# Altium integrated library Texas Instruments Power Management PWM Controller.IntLib: 1227 symbols (part 48 of 49)
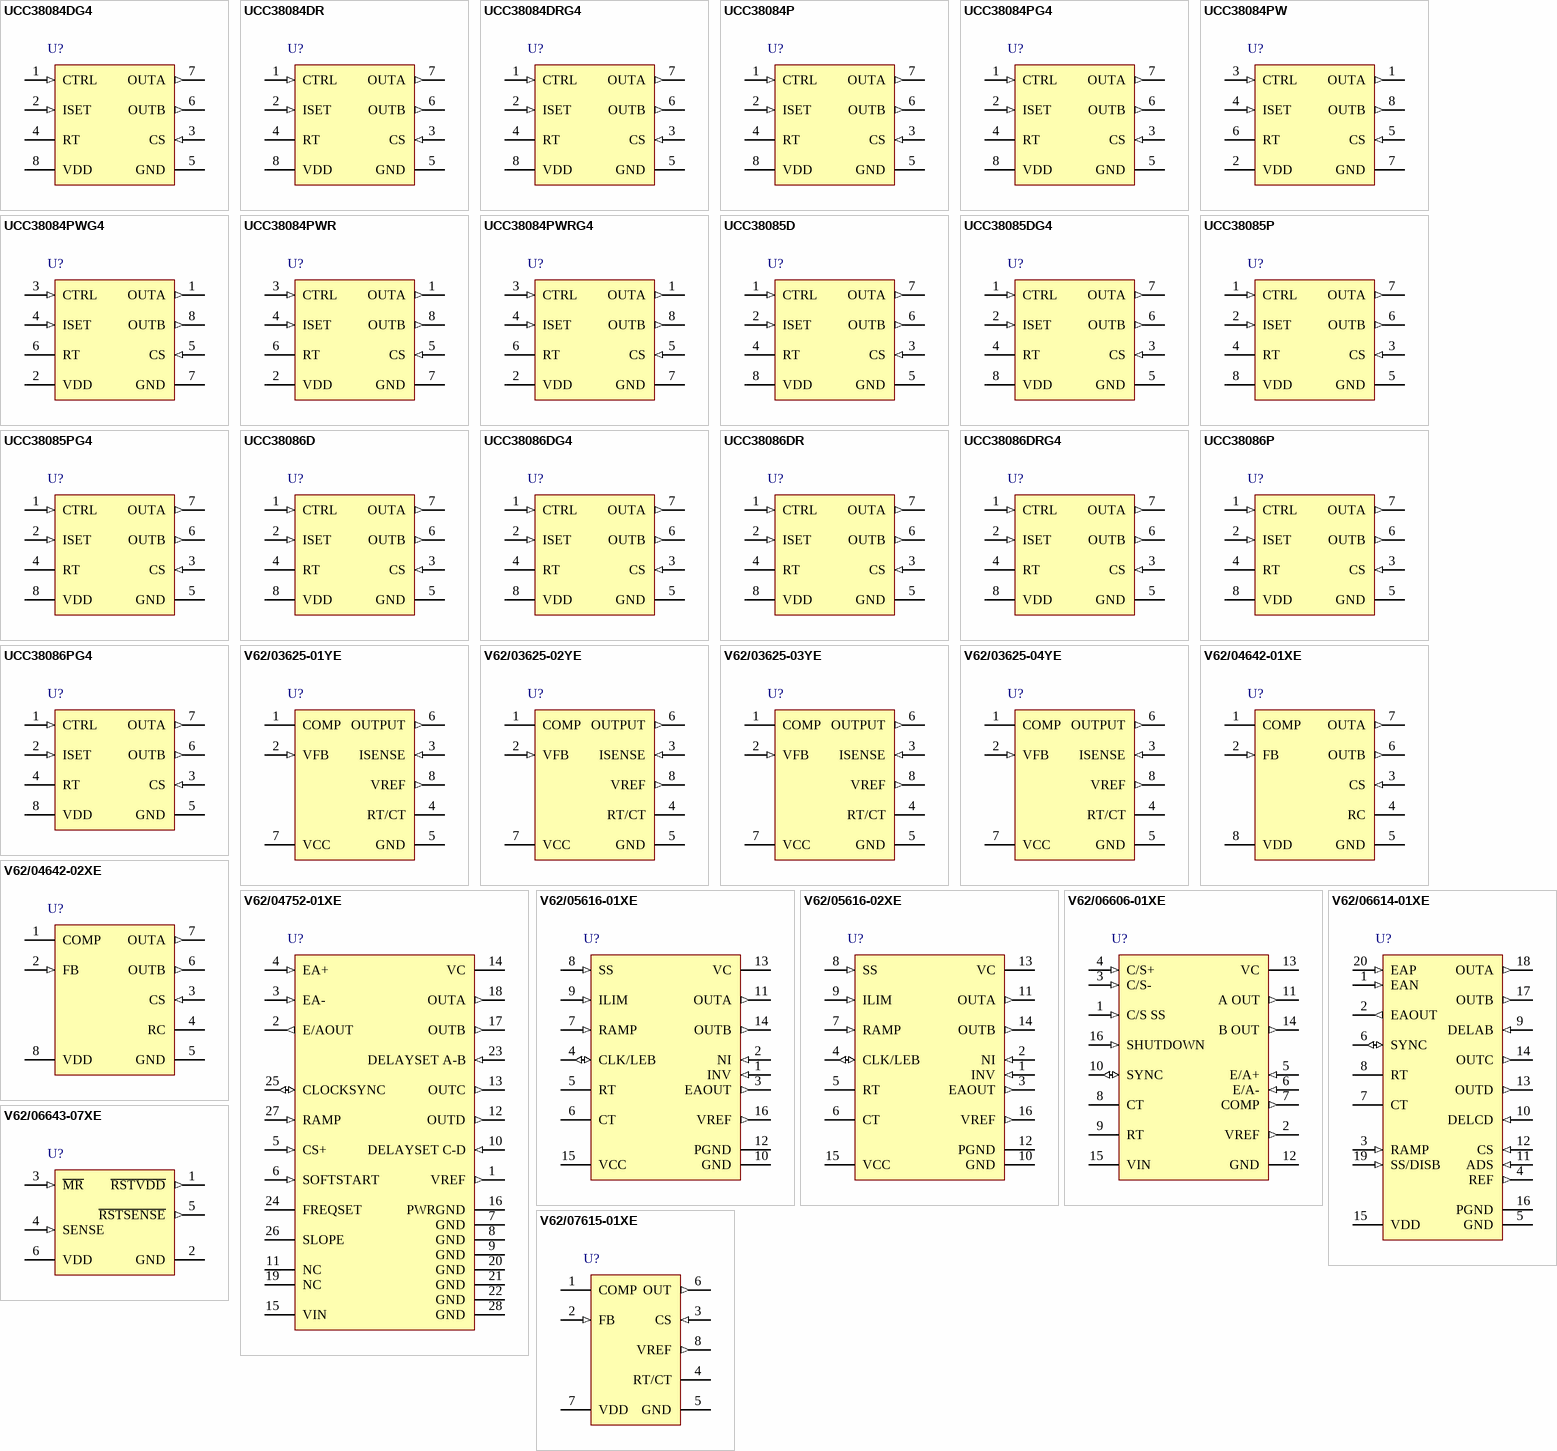
[diagram p90: symbols UCC38084DG4 to V62/07615-01XE]

## UCC38084PWG4
designator U?
8-Pin Current Mode Push-Pull PWM Controllers with Programmable Slope Compensation with Current control, 50% Duty Cycle, 0 to +70 degC, 8-pin TSSOP (PW), Green (RoHS & no Sb/Br); PartNumber: UCC38084PWG4; Manufacturer: Texas Instruments; Duty Cycle(Max)(%): 50; Frequency(Max)(kHz): 1000; Rating: Catalog; Regulated Outputs(#): 2; Topology: Boost, Buck, Half-Bridge, Push-Pull; UVLO Thresholds On/Off(V): 4.3/4.1; DatasheetVersion: SLUS488E; PackageVersion: revG, Feb-2011; PackageReference: PW8; PackageDescription: 8-Pin Plastic Thin Small Outline Package 3 x 4.4 mm Body ,0.65 mm Pitch; Supplier 1: Digi-Key; Supplier Part Number 1: UCC38084PWG4-ND; Supplier 2: Newark; Supplier Part Number 2: 70K5922; Supplier 3: Mouser; Supplier Part Number 3: 595-UCC38084PWG4; Control Method: Current; Eco-Plan: Green (RoHS & no Sb/Br); SubFamily: PWM Controller; Mounting Technology: Surface Mount; Code_JEDEC: MO-153; ComponentLink1Description: Datasheet; ComponentLink1URL: http://www.ti.com/general/docs/lit/getliterature.tsp?genericPartNumber=UCC38084&fileType=pdf
footprint PW8_N (TSOP, 8-Leads, Body 3x4.4mm, Pitch 0.65mm, IPC Medium Density)
footprint PW8_L (TSOP, 8-Leads, Body 3x4.4mm, Pitch 0.65mm, IPC High Density)
footprint PW8_M (TSOP, 8-Leads, Body 3x4.4mm, Pitch 0.65mm, IPC Low Density)
pins: 1 OUTA (out) "Alternating high-current output stages.", 2 VDD (power) "Power input connection.", 3 CTRL (in) "Error voltage input to PWM comparator.", 4 ISET (in) "Current selection for slope compensation.", 5 CS (in) "The current-sense input to the PWM comparator, the cycle-by-cycle peak current comparator, and the overcurrent comparator. The overcurrent comparator is only intended for fault sensing. Exceeding the overcurrent threshold (See Datasheet)", 6 RT "Programs the oscillator.", 7 GND (power) "Reference ground and power ground for all functions. Due to high currents, and high-frequency operation of the IC, a low-impedance circuit board ground plane is highly recommended.", 8 OUTB (out) "Alternating high-current output stages."

## UCC38084PWR
designator U?
8-Pin Current Mode Push-Pull PWM Controllers with Programmable Slope Compensation with Current control, 50% Duty Cycle, 0 to +70 degC, 8-pin TSSOP (PW), Green (RoHS & no Sb/Br); PartNumber: UCC38084PWR; Manufacturer: Texas Instruments; Duty Cycle(Max)(%): 50; Frequency(Max)(kHz): 1000; Rating: Catalog; Regulated Outputs(#): 2; Topology: Boost, Buck, Half-Bridge, Push-Pull; UVLO Thresholds On/Off(V): 4.3/4.1; DatasheetVersion: SLUS488E; PackageVersion: revG, Feb-2011; PackageReference: PW8; PackageDescription: 8-Pin Plastic Thin Small Outline Package 3 x 4.4 mm Body ,0.65 mm Pitch; Supplier 1: Digi-Key; Supplier Part Number 1: UCC38084PWR-ND; Supplier 2: Newark; Supplier Part Number 2: 22H2014; Supplier 3: Mouser; Supplier Part Number 3: 595-UCC38084PWR; Control Method: Current; Eco-Plan: Green (RoHS & no Sb/Br); SubFamily: PWM Controller; Mounting Technology: Surface Mount; Code_JEDEC: MO-153; ComponentLink1Description: Datasheet; ComponentLink1URL: http://www.ti.com/general/docs/lit/getliterature.tsp?genericPartNumber=UCC38084&fileType=pdf
footprint PW8_N (TSOP, 8-Leads, Body 3x4.4mm, Pitch 0.65mm, IPC Medium Density)
footprint PW8_L (TSOP, 8-Leads, Body 3x4.4mm, Pitch 0.65mm, IPC High Density)
footprint PW8_M (TSOP, 8-Leads, Body 3x4.4mm, Pitch 0.65mm, IPC Low Density)
pins: 1 OUTA (out) "Alternating high-current output stages.", 2 VDD (power) "Power input connection.", 3 CTRL (in) "Error voltage input to PWM comparator.", 4 ISET (in) "Current selection for slope compensation.", 5 CS (in) "The current-sense input to the PWM comparator, the cycle-by-cycle peak current comparator, and the overcurrent comparator. The overcurrent comparator is only intended for fault sensing. Exceeding the overcurrent threshold (See Datasheet)", 6 RT "Programs the oscillator.", 7 GND (power) "Reference ground and power ground for all functions. Due to high currents, and high-frequency operation of the IC, a low-impedance circuit board ground plane is highly recommended.", 8 OUTB (out) "Alternating high-current output stages."

## UCC38084PWRG4
designator U?
Push-Pull PWM Controller with Programmable Slope Compensation with Current Control, 50 % Duty Cycle, 0 to +70 degC, 8-pin TSSOP (PW), Green (RoHS & no Sb/Br); PartNumber: UCC38084PWRG4; Manufacturer: Texas Instruments; Duty Cycle(Max)(%): 50; Frequency(Max)(kHz): 1000; Rating: Catalog; Regulated Outputs(#): 2; Topology: Boost, Buck, Half-Bridge, Push-Pull; UVLO Thresholds On/Off(V): 4.3/4.1; DatasheetVersion: SLUS488E; PackageVersion: revG, Feb-2011; PackageReference: PW8; PackageDescription: 8-Pin Plastic Thin Small Outline Package 3 x 4.4 mm Body ,0.65 mm Pitch; Supplier 1: Digi-Key; Supplier Part Number 1: UCC38084PWRG4-ND; Supplier 2: Newark; Supplier Part Number 2: 54K2133; Supplier 3: Mouser; Supplier Part Number 3: 595-UCC38084PWRG4; Control Method: Current; Eco-Plan: Green (RoHS & no Sb/Br); SubFamily: PWM Controller; Mounting Technology: Surface Mount; Code_JEDEC: MO-153; ComponentLink1Description: Datasheet; ComponentLink1URL: http://www.ti.com/general/docs/lit/getliterature.tsp?genericPartNumber=UCC38084&fileType=pdf
footprint PW8_N (TSOP, 8-Leads, Body 3x4.4mm, Pitch 0.65mm, IPC Medium Density)
footprint PW8_L (TSOP, 8-Leads, Body 3x4.4mm, Pitch 0.65mm, IPC High Density)
footprint PW8_M (TSOP, 8-Leads, Body 3x4.4mm, Pitch 0.65mm, IPC Low Density)
pins: 1 OUTA (out) "Alternating high-current output stages.", 2 VDD (power) "Power input connection.", 3 CTRL (in) "Error voltage input to PWM comparator.", 4 ISET (in) "Current selection for slope compensation.", 5 CS (in) "The current-sense input to the PWM comparator, the cycle-by-cycle peak current comparator, and the overcurrent comparator. The overcurrent comparator is only intended for fault sensing. Exceeding the overcurrent threshold (See Datasheet)", 6 RT "Programs the oscillator.", 7 GND (power) "Reference ground and power ground for all functions. Due to high currents, and high-frequency operation of the IC, a low-impedance circuit board ground plane is highly recommended.", 8 OUTB (out) "Alternating high-current output stages."

## UCC38085D
designator U?
Push-Pull PWM Controller with Programmable Slope Compensation with Current Control, 50 % Duty Cycle, 0 to +70 degC, 8-pin SOIC (D), Green (RoHS & no Sb/Br); PartNumber: UCC38085D; Manufacturer: Texas Instruments; Duty Cycle(Max)(%): 50; Frequency(Max)(kHz): 1000; Rating: Catalog; Regulated Outputs(#): 2; Topology: Boost, Buck, Half-Bridge, Push-Pull; UVLO Thresholds On/Off(V): 12.5/8.3; DatasheetVersion: SLUS488E; PackageVersion: revM, Jun-2011; PackageReference: D8; PackageDescription: 8-Pin Plastic Small Outline Integrated Circuit, 4.9 x 3.9 mm, Pitch 1.27 mm Pitch; Supplier 1: Digi-Key; Supplier Part Number 1: 296-13694-5-ND; Supplier 2: Newark; Supplier Part Number 2: 02E7343; Supplier 3: Mouser; Supplier Part Number 3: 595-UCC38085D; Control Method: Current; Eco-Plan: Green (RoHS & no Sb/Br); SubFamily: PWM Controller; Mounting Technology: Surface Mount; Code_JEDEC: MS-012AA; ComponentLink1Description: Datasheet; ComponentLink1URL: http://www.ti.com/general/docs/lit/getliterature.tsp?genericPartNumber=UCC38085&fileType=pdf
footprint D8_N (SOIC, 8-Leads, Body 4.9x3.9mm, Pitch 1.27mm, IPC Medium Density)
footprint D8_L (SOIC, 8-Leads, Body 4.9x3.9mm, Pitch 1.27mm, IPC High Density)
footprint D8_M (SOIC, 8-Leads, Body 4.9x3.9mm, Pitch 1.27mm, IPC Low Density)
pins: 1 CTRL (in) "Error voltage input to PWM comparator.", 2 ISET (in) "Current selection for slope compensation.", 3 CS (in) "The current-sense input to the PWM comparator, the cycle-by-cycle peak current comparator, and the overcurrent comparator. The overcurrent comparator is only intended for fault sensing. Exceeding the overcurrent threshold (See Datasheet)", 4 RT "Programs the oscillator", 5 GND (power) "Reference ground and power ground for all functions. Due to high currents, and high-frequency operation of the IC, a low-impedance circuit board ground plane is highly recommended.", 6 OUTB (out) "Alternating high-current output stages.", 7 OUTA (out) "Alternating high-current output stages.", 8 VDD (power) "Power input connection."

## UCC38085DG4
designator U?
Push-Pull PWM Controller with Programmable Slope Compensation with Current Control, 50 % Duty Cycle, 0 to +70 degC, 8-pin SOIC (D), Green (RoHS & no Sb/Br); PartNumber: UCC38085DG4; Manufacturer: Texas Instruments; Duty Cycle(Max)(%): 50; Frequency(Max)(kHz): 1000; Rating: Catalog; Regulated Outputs(#): 2; Topology: Boost, Buck, Half-Bridge, Push-Pull; UVLO Thresholds On/Off(V): 12.5/8.3; DatasheetVersion: SLUS488E; PackageVersion: revM, Jun-2011; PackageReference: D8; PackageDescription: 8-Pin Plastic Small Outline Integrated Circuit, 4.9 x 3.9 mm, Pitch 1.27 mm Pitch; Supplier 1: Digi-Key; Supplier Part Number 1: UCC38085DG4-ND; Supplier 2: Newark; Supplier Part Number 2: 34M0255; Supplier 3: Mouser; Supplier Part Number 3: 595-UCC38085DG4; Control Method: Current; Eco-Plan: Green (RoHS & no Sb/Br); SubFamily: PWM Controller; Mounting Technology: Surface Mount; Code_JEDEC: MS-012AA; ComponentLink1Description: Datasheet; ComponentLink1URL: http://www.ti.com/general/docs/lit/getliterature.tsp?genericPartNumber=UCC38085&fileType=pdf
footprint D8_N (SOIC, 8-Leads, Body 4.9x3.9mm, Pitch 1.27mm, IPC Medium Density)
footprint D8_L (SOIC, 8-Leads, Body 4.9x3.9mm, Pitch 1.27mm, IPC High Density)
footprint D8_M (SOIC, 8-Leads, Body 4.9x3.9mm, Pitch 1.27mm, IPC Low Density)
pins: 1 CTRL (in) "Error voltage input to PWM comparator.", 2 ISET (in) "Current selection for slope compensation.", 3 CS (in) "The current-sense input to the PWM comparator, the cycle-by-cycle peak current comparator, and the overcurrent comparator. The overcurrent comparator is only intended for fault sensing. Exceeding the overcurrent threshold (See Datasheet)", 4 RT "Programs the oscillator", 5 GND (power) "Reference ground and power ground for all functions. Due to high currents, and high-frequency operation of the IC, a low-impedance circuit board ground plane is highly recommended.", 6 OUTB (out) "Alternating high-current output stages.", 7 OUTA (out) "Alternating high-current output stages.", 8 VDD (power) "Power input connection."

## UCC38085P
designator U?
Push-Pull PWM Controller with Programmable Slope Compensation with Current Control, 50 % Duty Cycle, 0 to +70 degC, 8-pin PDIP (P), Green (RoHS & no Sb/Br); PartNumber: UCC38085P; Manufacturer: Texas Instruments; Duty Cycle(Max)(%): 50; Frequency(Max)(kHz): 1000; Rating: Catalog; Regulated Outputs(#): 2; Topology: Boost, Buck, Half-Bridge, Push-Pull; UVLO Thresholds On/Off(V): 12.5/8.3; DatasheetVersion: SLUS488E; PackageVersion: revE, Apr-2010; PackageReference: P8; PackageDescription: 8-Pin Plastic Dual-In-Line Package, Row Spacing 7.62 mm, Pitch 2.54 mm; Supplier 1: Digi-Key; Supplier Part Number 1: 296-13695-5-ND; Supplier 2: Newark; Supplier Part Number 2: 02E7345; Supplier 3: Mouser; Supplier Part Number 3: 595-UCC38085P; Control Method: Current; Eco-Plan: Green (RoHS & no Sb/Br); SubFamily: PWM Controller; Mounting Technology: Through Hole; Code_JEDEC: MS-001-BA; ComponentLink1Description: Datasheet; ComponentLink1URL: http://www.ti.com/general/docs/lit/getliterature.tsp?genericPartNumber=UCC38085&fileType=pdf
footprint P8 (DIP, 8-Leads, Row Spacing 7.62mm, Pitch 2.54mm, Body 9.6x6.4mm)
pins: 1 CTRL (in) "Error voltage input to PWM comparator.", 2 ISET (in) "Current selection for slope compensation.", 3 CS (in) "The current-sense input to the PWM comparator, the cycle-by-cycle peak current comparator, and the overcurrent comparator. The overcurrent comparator is only intended for fault sensing. Exceeding the overcurrent threshold (See Datasheet)", 4 RT "Programs the oscillator.", 5 GND (power) "Reference ground and power ground for all functions. Due to high currents, and high-frequency operation of the IC, a low-impedance circuit board ground plane is highly recommended.", 6 OUTB (out) "Alternating high-current output stages.", 7 OUTA (out) "Alternating high-current output stages.", 8 VDD (power) "Power input connection."

## UCC38085PG4
designator U?
Push-Pull PWM Controller with Programmable Slope Compensation with Current Control, 50 % Duty Cycle, 0 to +70 degC, 8-pin PDIP (P), Green (RoHS & no Sb/Br); PartNumber: UCC38085PG4; Manufacturer: Texas Instruments; Duty Cycle(Max)(%): 50; Frequency(Max)(kHz): 1000; Rating: Catalog; Regulated Outputs(#): 2; Topology: Boost, Buck, Half-Bridge, Push-Pull; UVLO Thresholds On/Off(V): 12.5/8.3; DatasheetVersion: SLUS488E; PackageVersion: revE, Apr-2010; PackageReference: P8; PackageDescription: 8-Pin Plastic Dual-In-Line Package, Row Spacing 7.62 mm, Pitch 2.54 mm; Supplier 1: Digi-Key; Supplier Part Number 1: UCC38085PG4-ND; Supplier 2: Newark; Supplier Part Number 2: 24K6345; Supplier 3: Mouser; Supplier Part Number 3: 595-UCC38085PG4; Control Method: Current; Eco-Plan: Green (RoHS & no Sb/Br); SubFamily: PWM Controller; Mounting Technology: Through Hole; Code_JEDEC: MS-001-BA; ComponentLink1Description: Datasheet; ComponentLink1URL: http://www.ti.com/general/docs/lit/getliterature.tsp?genericPartNumber=UCC38085&fileType=pdf
footprint P8 (DIP, 8-Leads, Row Spacing 7.62mm, Pitch 2.54mm, Body 9.6x6.4mm)
pins: 1 CTRL (in) "Error voltage input to PWM comparator.", 2 ISET (in) "Current selection for slope compensation.", 3 CS (in) "The current-sense input to the PWM comparator, the cycle-by-cycle peak current comparator, and the overcurrent comparator. The overcurrent comparator is only intended for fault sensing. Exceeding the overcurrent threshold (See Datasheet)", 4 RT "Programs the oscillator.", 5 GND (power) "Reference ground and power ground for all functions. Due to high currents, and high-frequency operation of the IC, a low-impedance circuit board ground plane is highly recommended.", 6 OUTB (out) "Alternating high-current output stages.", 7 OUTA (out) "Alternating high-current output stages.", 8 VDD (power) "Power input connection."

## UCC38086D
designator U?
Push-Pull PWM Controller with Programmable Slope Compensation with Current Control, 50 % Duty Cycle, 0 to +70 degC, 8-pin SOIC (D), Green (RoHS & no Sb/Br); PartNumber: UCC38086D; Manufacturer: Texas Instruments; Duty Cycle(Max)(%): 50; Frequency(Max)(kHz): 1000; Rating: Catalog; Regulated Outputs(#): 2; Topology: Boost, Buck, Half-Bridge, Push-Pull; UVLO Thresholds On/Off(V): 4.3/4.1; DatasheetVersion: SLUS488E; PackageVersion: revM, Jun-2011; PackageReference: D8; PackageDescription: 8-Pin Plastic Small Outline Integrated Circuit, 4.9 x 3.9 mm, Pitch 1.27 mm Pitch; Supplier 1: Digi-Key; Supplier Part Number 1: 296-13696-5-ND; Supplier 2: Newark; Supplier Part Number 2: 02E7346; Supplier 3: Mouser; Supplier Part Number 3: 595-UCC38086D; Control Method: Current; Eco-Plan: Green (RoHS & no Sb/Br); SubFamily: PWM Controller; Mounting Technology: Surface Mount; Code_JEDEC: MS-012AA; ComponentLink1Description: Datasheet; ComponentLink1URL: http://www.ti.com/general/docs/lit/getliterature.tsp?genericPartNumber=UCC38086&fileType=pdf
footprint D8_N (SOIC, 8-Leads, Body 4.9x3.9mm, Pitch 1.27mm, IPC Medium Density)
footprint D8_L (SOIC, 8-Leads, Body 4.9x3.9mm, Pitch 1.27mm, IPC High Density)
footprint D8_M (SOIC, 8-Leads, Body 4.9x3.9mm, Pitch 1.27mm, IPC Low Density)
pins: 1 CTRL (in) "Error voltage input to PWM comparator.", 2 ISET (in) "Current selection for slope compensation.", 3 CS (in) "The current-sense input to the PWM comparator, the cycle-by-cycle peak current comparator, and the overcurrent comparator. The overcurrent comparator is only intended for fault sensing. Exceeding the overcurrent threshold (See Datasheet)", 4 RT "Programs the oscillator.", 5 GND (power) "Reference ground and power ground for all functions. Due to high currents, and high-frequency operation of the IC, a low-impedance circuit board ground plane is highly recommended.", 6 OUTB (out) "Alternating high-current output stages.", 7 OUTA (out) "Alternating high-current output stages.", 8 VDD (power) "Power input connection."

## UCC38086DG4
designator U?
Push-Pull PWM Controller with Programmable Slope Compensation with Current Control, 50 % Duty Cycle, 0 to +70 degC, 8-pin SOIC (D), Green (RoHS & no Sb/Br); PartNumber: UCC38086DG4; Manufacturer: Texas Instruments; Duty Cycle(Max)(%): 50; Frequency(Max)(kHz): 1000; Rating: Catalog; Regulated Outputs(#): 2; Topology: Boost, Buck, Half-Bridge, Push-Pull; UVLO Thresholds On/Off(V): 4.3/4.1; DatasheetVersion: SLUS488E; PackageVersion: revM, Jun-2011; PackageReference: D8; PackageDescription: 8-Pin Plastic Small Outline Integrated Circuit, 4.9 x 3.9 mm, Pitch 1.27 mm Pitch; Supplier 1: Digi-Key; Supplier Part Number 1: UCC38086DG4-ND; Supplier 2: Newark; Supplier Part Number 2: 18M3318; Supplier 3: Mouser; Supplier Part Number 3: 595-UCC38086DG4; Control Method: Current; Eco-Plan: Green (RoHS & no Sb/Br); SubFamily: PWM Controller; Mounting Technology: Surface Mount; Code_JEDEC: MS-012AA; ComponentLink1Description: Datasheet; ComponentLink1URL: http://www.ti.com/general/docs/lit/getliterature.tsp?genericPartNumber=UCC38086&fileType=pdf
footprint D8_N (SOIC, 8-Leads, Body 4.9x3.9mm, Pitch 1.27mm, IPC Medium Density)
footprint D8_L (SOIC, 8-Leads, Body 4.9x3.9mm, Pitch 1.27mm, IPC High Density)
footprint D8_M (SOIC, 8-Leads, Body 4.9x3.9mm, Pitch 1.27mm, IPC Low Density)
pins: 1 CTRL (in) "Error voltage input to PWM comparator.", 2 ISET (in) "Current selection for slope compensation.", 3 CS (in) "The current-sense input to the PWM comparator, the cycle-by-cycle peak current comparator, and the overcurrent comparator. The overcurrent comparator is only intended for fault sensing. Exceeding the overcurrent threshold (See Datasheet)", 4 RT "Programs the oscillator.", 5 GND (power) "Reference ground and power ground for all functions. Due to high currents, and high-frequency operation of the IC, a low-impedance circuit board ground plane is highly recommended.", 6 OUTB (out) "Alternating high-current output stages.", 7 OUTA (out) "Alternating high-current output stages.", 8 VDD (power) "Power input connection."

## UCC38086DR
designator U?
Push-Pull PWM Controller with Programmable Slope Compensation with Current Control, 50 % Duty Cycle, 0 to +70 degC, 8-pin SOIC (D), Green (RoHS & no Sb/Br); PartNumber: UCC38086DR; Manufacturer: Texas Instruments; Duty Cycle(Max)(%): 50; Frequency(Max)(kHz): 1000; Rating: Catalog; Regulated Outputs(#): 2; Topology: Boost, Buck, Half-Bridge, Push-Pull; UVLO Thresholds On/Off(V): 4.3/4.1; DatasheetVersion: SLUS488E; PackageVersion: revM, Jun-2011; PackageReference: D8; PackageDescription: 8-Pin Plastic Small Outline Integrated Circuit, 4.9 x 3.9 mm, Pitch 1.27 mm Pitch; Supplier 1: Digi-Key; Supplier Part Number 1: UCC38086DR-ND; Supplier 2: Newark; Supplier Part Number 2: 02E7347; Supplier 3: Mouser; Supplier Part Number 3: 595-UCC38086DR; Control Method: Current; Eco-Plan: Green (RoHS & no Sb/Br); SubFamily: PWM Controller; Mounting Technology: Surface Mount; Code_JEDEC: MS-012AA; ComponentLink1Description: Datasheet; ComponentLink1URL: http://www.ti.com/general/docs/lit/getliterature.tsp?genericPartNumber=UCC38086&fileType=pdf
footprint D8_N (SOIC, 8-Leads, Body 4.9x3.9mm, Pitch 1.27mm, IPC Medium Density)
footprint D8_L (SOIC, 8-Leads, Body 4.9x3.9mm, Pitch 1.27mm, IPC High Density)
footprint D8_M (SOIC, 8-Leads, Body 4.9x3.9mm, Pitch 1.27mm, IPC Low Density)
pins: 1 CTRL (in) "Error voltage input to PWM comparator.", 2 ISET (in) "Current selection for slope compensation.", 3 CS (in) "The current-sense input to the PWM comparator, the cycle-by-cycle peak current comparator, and the overcurrent comparator. The overcurrent comparator is only intended for fault sensing. Exceeding the overcurrent threshold (See Datasheet)", 4 RT "Programs the oscillator.", 5 GND (power) "Reference ground and power ground for all functions. Due to high currents, and high-frequency operation of the IC, a low-impedance circuit board ground plane is highly recommended.", 6 OUTB (out) "Alternating high-current output stages.", 7 OUTA (out) "Alternating high-current output stages.", 8 VDD (power) "Power input connection."

## UCC38086DRG4
designator U?
Push-Pull PWM Controller with Programmable Slope Compensation with Current Control, 50 % Duty Cycle, 0 to +70 degC, 8-pin SOIC (D), Green (RoHS & no Sb/Br); PartNumber: UCC38086DRG4; Manufacturer: Texas Instruments; Duty Cycle(Max)(%): 50; Frequency(Max)(kHz): 1000; Rating: Catalog; Regulated Outputs(#): 2; Topology: Boost, Buck, Half-Bridge, Push-Pull; UVLO Thresholds On/Off(V): 4.3/4.1; DatasheetVersion: SLUS488E; PackageVersion: revM, Jun-2011; PackageReference: D8; PackageDescription: 8-Pin Plastic Small Outline Integrated Circuit, 4.9 x 3.9 mm, Pitch 1.27 mm Pitch; Supplier 1: Digi-Key; Supplier Part Number 1: UCC38086DRG4-ND; Supplier 2: Newark; Supplier Part Number 2: 54K2136; Supplier 3: Mouser; Supplier Part Number 3: 595-UCC38086DRG4; Control Method: Current; Eco-Plan: Green (RoHS & no Sb/Br); SubFamily: PWM Controller; Mounting Technology: Surface Mount; Code_JEDEC: MS-012AA; ComponentLink1Description: Datasheet; ComponentLink1URL: http://www.ti.com/general/docs/lit/getliterature.tsp?genericPartNumber=UCC38086&fileType=pdf
footprint D8_N (SOIC, 8-Leads, Body 4.9x3.9mm, Pitch 1.27mm, IPC Medium Density)
footprint D8_L (SOIC, 8-Leads, Body 4.9x3.9mm, Pitch 1.27mm, IPC High Density)
footprint D8_M (SOIC, 8-Leads, Body 4.9x3.9mm, Pitch 1.27mm, IPC Low Density)
pins: 1 CTRL (in) "Error voltage input to PWM comparator.", 2 ISET (in) "Current selection for slope compensation.", 3 CS (in) "The current-sense input to the PWM comparator, the cycle-by-cycle peak current comparator, and the overcurrent comparator. The overcurrent comparator is only intended for fault sensing. Exceeding the overcurrent threshold (See Datasheet)", 4 RT "Programs the oscillator.", 5 GND (power) "Reference ground and power ground for all functions. Due to high currents, and high-frequency operation of the IC, a low-impedance circuit board ground plane is highly recommended.", 6 OUTB (out) "Alternating high-current output stages.", 7 OUTA (out) "Alternating high-current output stages.", 8 VDD (power) "Power input connection."

## UCC38086P
designator U?
Push-Pull PWM Controller with Programmable Slope Compensation with Current Control, 50 % Duty Cycle, 0 to +70 degC, 8-pin PDIP (P), Green (RoHS & no Sb/Br); PartNumber: UCC38086P; Manufacturer: Texas Instruments; Duty Cycle(Max)(%): 50; Frequency(Max)(kHz): 1000; Rating: Catalog; Regulated Outputs(#): 2; Topology: Boost, Buck, Half-Bridge, Push-Pull; UVLO Thresholds On/Off(V): 4.3/4.1; DatasheetVersion: SLUS488E; PackageVersion: revE, Apr-2010; PackageReference: P8; PackageDescription: 8-Pin Plastic Dual-In-Line Package, Row Spacing 7.62 mm, Pitch 2.54 mm; Supplier 1: Digi-Key; Supplier Part Number 1: 296-13697-5-ND; Supplier 2: Newark; Supplier Part Number 2: 02E7348; Supplier 3: Mouser; Supplier Part Number 3: 595-UCC38086P; Control Method: Current; Eco-Plan: Green (RoHS & no Sb/Br); SubFamily: PWM Controller; Mounting Technology: Through Hole; Code_JEDEC: MS-001-BA; ComponentLink1Description: Datasheet; ComponentLink1URL: http://www.ti.com/general/docs/lit/getliterature.tsp?genericPartNumber=UCC38086&fileType=pdf
footprint P8 (DIP, 8-Leads, Row Spacing 7.62mm, Pitch 2.54mm, Body 9.6x6.4mm)
pins: 1 CTRL (in) "Error voltage input to PWM comparator.", 2 ISET (in) "Current selection for slope compensation.", 3 CS (in) "The current-sense input to the PWM comparator, the cycle-by-cycle peak current comparator, and the overcurrent comparator. The overcurrent comparator is only intended for fault sensing. Exceeding the overcurrent threshold (See Datasheet)", 4 RT "Programs the oscillator.", 5 GND (power) "Reference ground and power ground for all functions. Due to high currents, and high-frequency operation of the IC, a low-impedance circuit board ground plane is highly recommended.", 6 OUTB (out) "Alternating high-current output stages.", 7 OUTA (out) "Alternating high-current output stages.", 8 VDD (power) "Power input connection."

## UCC38086PG4
designator U?
Push-Pull PWM Controller with Programmable Slope Compensation with Current Control, 50 % Duty Cycle, 0 to +70 degC, 8-pin PDIP (P), Green (RoHS & no Sb/Br); PartNumber: UCC38086PG4; Manufacturer: Texas Instruments; Duty Cycle(Max)(%): 50; Frequency(Max)(kHz): 1000; Rating: Catalog; Regulated Outputs(#): 2; Topology: Boost, Buck, Half-Bridge, Push-Pull; UVLO Thresholds On/Off(V): 4.3/4.1; DatasheetVersion: SLUS488E; PackageVersion: revE, Apr-2010; PackageReference: P8; PackageDescription: 8-Pin Plastic Dual-In-Line Package, Row Spacing 7.62 mm, Pitch 2.54 mm; Supplier 1: Digi-Key; Supplier Part Number 1: UCC38086PG4-ND; Supplier 2: Newark; Supplier Part Number 2: 14M4015; Supplier 3: Mouser; Supplier Part Number 3: 595-UCC38086PG4; Control Method: Current; Eco-Plan: Green (RoHS & no Sb/Br); SubFamily: PWM Controller; Mounting Technology: Through Hole; Code_JEDEC: MS-001-BA; ComponentLink1Description: Datasheet; ComponentLink1URL: http://www.ti.com/general/docs/lit/getliterature.tsp?genericPartNumber=UCC38086&fileType=pdf
footprint P8 (DIP, 8-Leads, Row Spacing 7.62mm, Pitch 2.54mm, Body 9.6x6.4mm)
pins: 1 CTRL (in) "Error voltage input to PWM comparator.", 2 ISET (in) "Current selection for slope compensation.", 3 CS (in) "The current-sense input to the PWM comparator, the cycle-by-cycle peak current comparator, and the overcurrent comparator. The overcurrent comparator is only intended for fault sensing. Exceeding the overcurrent threshold (See Datasheet)", 4 RT "Programs the oscillator.", 5 GND (power) "Reference ground and power ground for all functions. Due to high currents, and high-frequency operation of the IC, a low-impedance circuit board ground plane is highly recommended.", 6 OUTB (out) "Alternating high-current output stages.", 7 OUTA (out) "Alternating high-current output stages.", 8 VDD (power) "Power input connection."

## V62/03625-01YE
designator U?
PWM Controller with Current Control, 100 % Duty Cycle, -55 to +125 degC, 8-pin SOIC (D), Green (RoHS & no Sb/Br); PartNumber: V62/03625-01YE; Manufacturer: Texas Instruments; Duty Cycle(Max)(%): 100; Frequency(Max)(kHz): 500; Rating: HiRel Enhanced Product; Regulated Outputs(#): 1; UVLO Thresholds On/Off(V): 16/10; DatasheetVersion: SGLS134C; PackageVersion: revM, Jun-2011; PackageReference: D8; PackageDescription: 8-Pin Plastic Small Outline Integrated Circuit, 4.9 x 3.9 mm, Pitch 1.27 mm Pitch; Supplier 1: Newark; Supplier Part Number 1: 46M1436; Supplier 2: Mouser; Supplier Part Number 2: 595-V62/03625-01YE; Control Method: Current; Eco-Plan: Green (RoHS & no Sb/Br); SubFamily: PWM Controller; Mounting Technology: Surface Mount; Code_JEDEC: MS-012AA; ComponentLink1Description: Datasheet; ComponentLink1URL: http://www.ti.com/general/docs/lit/getliterature.tsp?genericPartNumber=UC1842A-EP&fileType=pdf
footprint D8_N (SOIC, 8-Leads, Body 4.9x3.9mm, Pitch 1.27mm, IPC Medium Density)
footprint D8_L (SOIC, 8-Leads, Body 4.9x3.9mm, Pitch 1.27mm, IPC High Density)
footprint D8_M (SOIC, 8-Leads, Body 4.9x3.9mm, Pitch 1.27mm, IPC Low Density)
pins: 1 COMP, 2 VFB (in), 3 ISENSE (in), 4 RT/CT, 5 GND (power), 6 OUTPUT (out), 7 VCC (power), 8 VREF (out)

## V62/03625-02YE
designator U?
PWM Controller with Current Control, 100 % Duty Cycle, -55 to +125 degC, 8-pin SOIC (D), Green (RoHS & no Sb/Br); PartNumber: V62/03625-02YE; Manufacturer: Texas Instruments; Duty Cycle(Max)(%): 100; Frequency(Max)(kHz): 500; Rating: HiRel Enhanced Product; Regulated Outputs(#): 1; UVLO Thresholds On/Off(V): 8.5/7.9; DatasheetVersion: SGLS134C; PackageVersion: revM, Jun-2011; PackageReference: D8; PackageDescription: 8-Pin Plastic Small Outline Integrated Circuit, 4.9 x 3.9 mm, Pitch 1.27 mm Pitch; Supplier 1: Newark; Supplier Part Number 1: 46M1437; Supplier 2: Mouser; Supplier Part Number 2: 595-V62/03625-02YE; Control Method: Current; Eco-Plan: Green (RoHS & no Sb/Br); SubFamily: PWM Controller; Mounting Technology: Surface Mount; Code_JEDEC: MS-012AA; ComponentLink1Description: Datasheet; ComponentLink1URL: http://www.ti.com/general/docs/lit/getliterature.tsp?genericPartNumber=UC1843A-EP&fileType=pdf
footprint D8_N (SOIC, 8-Leads, Body 4.9x3.9mm, Pitch 1.27mm, IPC Medium Density)
footprint D8_L (SOIC, 8-Leads, Body 4.9x3.9mm, Pitch 1.27mm, IPC High Density)
footprint D8_M (SOIC, 8-Leads, Body 4.9x3.9mm, Pitch 1.27mm, IPC Low Density)
pins: 1 COMP, 2 VFB (in), 3 ISENSE (in), 4 RT/CT, 5 GND (power), 6 OUTPUT (out), 7 VCC (power), 8 VREF (out)

## V62/03625-03YE
designator U?
PWM Controller with Current Control, 50 % Duty Cycle, -55 to +125 degC, 8-pin SOIC (D), Green (RoHS & no Sb/Br); PartNumber: V62/03625-03YE; Manufacturer: Texas Instruments; Duty Cycle(Max)(%): 50; Frequency(Max)(kHz): 500; Rating: HiRel Enhanced Product; Regulated Outputs(#): 1; UVLO Thresholds On/Off(V): 16/10; DatasheetVersion: SGLS134C; PackageVersion: revM, Jun-2011; PackageReference: D8; PackageDescription: 8-Pin Plastic Small Outline Integrated Circuit, 4.9 x 3.9 mm, Pitch 1.27 mm Pitch; Supplier 1: Newark; Supplier Part Number 1: 46M1438; Supplier 2: Mouser; Supplier Part Number 2: 595-V62/03625-03YE; Control Method: Current; Eco-Plan: Green (RoHS & no Sb/Br); SubFamily: PWM Controller; Mounting Technology: Surface Mount; Code_JEDEC: MS-012AA; ComponentLink1Description: Datasheet; ComponentLink1URL: http://www.ti.com/general/docs/lit/getliterature.tsp?genericPartNumber=UC1844A-EP&fileType=pdf
footprint D8_N (SOIC, 8-Leads, Body 4.9x3.9mm, Pitch 1.27mm, IPC Medium Density)
footprint D8_L (SOIC, 8-Leads, Body 4.9x3.9mm, Pitch 1.27mm, IPC High Density)
footprint D8_M (SOIC, 8-Leads, Body 4.9x3.9mm, Pitch 1.27mm, IPC Low Density)
pins: 1 COMP, 2 VFB (in), 3 ISENSE (in), 4 RT/CT, 5 GND (power), 6 OUTPUT (out), 7 VCC (power), 8 VREF (out)

## V62/03625-04YE
designator U?
PWM Controller with Current Control, 50 % Duty Cycle, -55 to +125 degC, 8-pin SOIC (D), Green (RoHS & no Sb/Br); PartNumber: V62/03625-04YE; Manufacturer: Texas Instruments; Duty Cycle(Max)(%): 50; Frequency(Max)(kHz): 500; Rating: HiRel Enhanced Product; Regulated Outputs(#): 1; UVLO Thresholds On/Off(V): 8.5/7.9; DatasheetVersion: SGLS134C; PackageVersion: revM, Jun-2011; PackageReference: D8; PackageDescription: 8-Pin Plastic Small Outline Integrated Circuit, 4.9 x 3.9 mm, Pitch 1.27 mm Pitch; Supplier 1: Newark; Supplier Part Number 1: 46M1439; Supplier 2: Mouser; Supplier Part Number 2: 595-V62/03625-04YE; Control Method: Current; Eco-Plan: Green (RoHS & no Sb/Br); SubFamily: PWM Controller; Mounting Technology: Surface Mount; Code_JEDEC: MS-012AA; ComponentLink1Description: Datasheet; ComponentLink1URL: http://www.ti.com/general/docs/lit/getliterature.tsp?genericPartNumber=UC1845A-EP&fileType=pdf
footprint D8_N (SOIC, 8-Leads, Body 4.9x3.9mm, Pitch 1.27mm, IPC Medium Density)
footprint D8_L (SOIC, 8-Leads, Body 4.9x3.9mm, Pitch 1.27mm, IPC High Density)
footprint D8_M (SOIC, 8-Leads, Body 4.9x3.9mm, Pitch 1.27mm, IPC Low Density)
pins: 1 COMP, 2 VFB (in), 3 ISENSE (in), 4 RT/CT, 5 GND (power), 6 OUTPUT (out), 7 VCC (power), 8 VREF (out)

## V62/04642-01XE
designator U?
Low Power Push-Pull PWM with Current Control, 50 % Duty Cycle, -40 to +125 degC, 8-pin SOIC (D), Green (RoHS & no Sb/Br); PartNumber: V62/04642-01XE; Manufacturer: Texas Instruments; Duty Cycle(Max)(%): 50; Frequency(Max)(kHz): 1000; Rating: HiRel Enhanced Product; Regulated Outputs(#): 2; SubFamily: PWM Controller; UVLO Thresholds On/Off(V): 12.5/8.3; DatasheetVersion: SGLS187A; PackageVersion: revM, Jun-2011; PackageReference: D8; PackageDescription: 8-Pin Plastic Small Outline Integrated Circuit, 4.9 x 3.9 mm, Pitch 1.27 mm Pitch; Supplier 1: Newark; Supplier Part Number 1: 46M1590; Supplier 2: Mouser; Supplier Part Number 2: 595-V62/04642-01XE; Control Method: Current; Eco-Plan: Green (RoHS & no Sb/Br); Mounting Technology: Surface Mount; Code_JEDEC: MS-012AA; ComponentLink1Description: Datasheet; ComponentLink1URL: http://www.ti.com/general/docs/lit/getliterature.tsp?genericPartNumber=UCC2808A-1EP&fileType=pdf
footprint D8_N (SOIC, 8-Leads, Body 4.9x3.9mm, Pitch 1.27mm, IPC Medium Density)
footprint D8_L (SOIC, 8-Leads, Body 4.9x3.9mm, Pitch 1.27mm, IPC High Density)
footprint D8_M (SOIC, 8-Leads, Body 4.9x3.9mm, Pitch 1.27mm, IPC Low Density)
pins: 1 COMP "COMP is the output of the error amplifier and the input of the PWM comparator. The error amplifier in the UCC2808A is a true low-output impedance, 2-MHz operational amplifier. As such, the COMP pin can both source and sink (See Datasheet)", 2 FB (in) "The inverting input to the error amplifier. For best stability, keep FB lead length as short as possible and FB stray capacitance as small as possible.", 3 CS (in) "The input to the PWM,  peak current, and overcurrent comparators. The overcurrent comparator is only intended for fault sensing. Exceeding the overcurrent threshold will cause a soft start cycle. An internal MOSFET (See Datasheet)", 4 RC "The oscillator programming pin.", 5 GND (power) "Reference ground and power ground for all functions. Due to high currents, and high frequency operation of the UCC2808A, a low impedance circuit board ground plane is highly recommended.", 6 OUTB (out) "Alternating high current output stages. Both stages are capable of driving the gate of a power MOSFET. Each stage is capable of 500-mA peak-source current, and 1-A peak-sink current.", 7 OUTA (out) "Alternating high current output stages. Both stages are capable of driving the gate of a power MOSFET. Each stage is capable of 500-mA peak-source current, and 1-A peak-sink current.", 8 VDD (power) "The power input connection for this device."

## V62/04642-02XE
designator U?
Low Power Push-Pull PWM with Current Control, 50 % Duty Cycle, -40 to +125 degC, 8-pin SOIC (D), Green (RoHS & no Sb/Br); PartNumber: V62/04642-02XE; Manufacturer: Texas Instruments; Duty Cycle(Max)(%): 50; Frequency(Max)(kHz): 1000; Rating: HiRel Enhanced Product; Regulated Outputs(#): 2; SubFamily: PWM Controller; UVLO Thresholds On/Off(V): 4.3/4.1; DatasheetVersion: SGLS187A; PackageVersion: revM, Jun-2011; PackageReference: D8; PackageDescription: 8-Pin Plastic Small Outline Integrated Circuit, 4.9 x 3.9 mm, Pitch 1.27 mm Pitch; Supplier 1: Newark; Supplier Part Number 1: 46M1591; Supplier 2: Mouser; Supplier Part Number 2: 595-V62/04642-02XE; Control Method: Current; Eco-Plan: Green (RoHS & no Sb/Br); Mounting Technology: Surface Mount; Code_JEDEC: MS-012AA; ComponentLink1Description: Datasheet; ComponentLink1URL: http://www.ti.com/general/docs/lit/getliterature.tsp?genericPartNumber=UCC2808A-2EP&fileType=pdf
footprint D8_N (SOIC, 8-Leads, Body 4.9x3.9mm, Pitch 1.27mm, IPC Medium Density)
footprint D8_L (SOIC, 8-Leads, Body 4.9x3.9mm, Pitch 1.27mm, IPC High Density)
footprint D8_M (SOIC, 8-Leads, Body 4.9x3.9mm, Pitch 1.27mm, IPC Low Density)
pins: 1 COMP "COMP is the output of the error amplifier and the input of the PWM comparator. The error amplifier in the UCC2808A is a true low-output impedance, 2-MHz operational amplifier. As such, the COMP pin can both source and sink (See Datasheet)", 2 FB (in) "The inverting input to the error amplifier. For best stability, keep FB lead length as short as possible and FB stray capacitance as small as possible.", 3 CS (in) "The input to the PWM, peak current, and overcurrent comparators. The overcurrent comparator is only intended for fault sensing. Exceeding the overcurrent threshold will cause a soft start cycle. An internal MOSFET discharges (See Datasheet)", 4 RC "The oscillator programming pin. The UCC2808A's oscillator tracks VDD and GND internally, so that variations in power supply rails minimally affect frequency stability. Figure 1 shows the oscillator block diagram.", 5 GND (power) "Reference ground and power ground for all functions. Due to high currents, and high frequency operation of the UCC2808A, a low impedance circuit board ground plane is highly recommended.", 6 OUTB (out) "Alternating high current output stages. Both stages are capable of driving the gate of a power MOSFET. Each stage is capable of 500-mA peak-source current, and 1-A peak-sink current.", 7 OUTA (out) "Alternating high current output stages. Both stages are capable of driving the gate of a power MOSFET. Each stage is capable of 500-mA peak-source current, and 1-A peak-sink current.", 8 VDD (power) "The power input connection for this device. Although quiescent VDD current is very low, total supply current will be higher, depending on OUTA and OUTB current, and the programmed oscillator frequency. Total VDD current is (See Datasheet)"

## V62/04752-01XE
designator U?
Phase Shift Resonant Controller with Current, Voltage Control, 100 % Duty Cycle, -25 to +110 degC, 28-pin SOIC (DW), Green (RoHS & no Sb/Br); PartNumber: V62/04752-01XE; Manufacturer: Texas Instruments; Duty Cycle(Max)(%): 99; Frequency(Max)(kHz): 700; Rating: Catalog; Regulated Outputs(#): 1; SubFamily: PWM Controller; Topology: Boost, Flyback, Forward; UVLO Thresholds On/Off(V): 9.9/9.1; DatasheetVersion: SGLS233A; PackageVersion: revG, Jan-2011; PackageReference: DW28; PackageDescription: 28-Pin Plastic Small Outline Integrated Circuit, 17.9 x 7.5 mm, Pitch 1.27 mm Pitch; Supplier 1: Arrow; Supplier Part Number 1: 42368569S9020214N7713; Supplier 2: Newark; Supplier Part Number 2: 46M1741; Supplier 3: Mouser; Supplier Part Number 3: 595-V62/04752-01XE; Control Method: Voltage; Eco-Plan: Green (RoHS & no Sb/Br); Mounting Technology: Surface Mount; Code_JEDEC: MS-013-AE; ComponentLink1Description: Datasheet; ComponentLink1URL: http://www.ti.com/general/docs/lit/getliterature.tsp?genericPartNumber=UC2875-EP&fileType=pdf
footprint DW28_N (SOIC, 28-Leads, Body 17.9x7.5mm, Pitch 1.27mm, IPC Medium Density)
footprint DW28_L (SOIC, 28-Leads, Body 17.9x7.5mm, Pitch 1.27mm, IPC High Density)
footprint DW28_M (SOIC, 28-Leads, Body 17.9x7.5mm, Pitch 1.27mm, IPC Low Density)
pins: 1 VREF (out) "This pin is an accurate 5 V voltage reference. This output is capable of delivering about 60 mA to peripheral circuitry and is internally short circuit current limited. VREF is disabled while VIN is low enough to force the (See Datasheet)", 2 E/AOUT (out) "(error amplifier output): This is is the gain stage for overall feedback control. Error amplifier output voltage levels below 1 volt will force 0 degC  phase shift. Since the error amplifier has a relatively low current (See Datasheet)", 3 EA- (in) "This is normally connected to the voltage divider resistors which sense the power supply output voltage level.", 4 EA+ (in) "This is normally connected to a reference voltage used for comparison with the sensed power supply output voltage level at the EA+ pin.", 5 CS+ (in) "The non-inverting input to the current- fault comparator whose reference is set internally to a fixed 2.5 V (separate from VREF). When the voltage at this pin exceeds 2.5 V the current-fault latch is set, the outputs are (See Datasheet)", 6 SOFTSTART (in) "SOFTSTART will remain at GND as long as VIN is below the UVLO threshold. SOFTSTART will be pulled up to about 4.8 V by an internal 9 uA current source when VIN becomes valid (assuming a non-fault condition). In the event of (See Datasheet)", 7 GND (power) "All voltages are measured with respect to GND. The timing capacitor, on the FREQSET pin, any bypass capacitor on the VREF pin, bypass capacitors on VIN and the ramp capacitor, on the RAMP pin, should be connected directly to (See Datasheet)", 8 GND (power) "All voltages are measured with respect to GND. The timing capacitor, on the FREQSET pin, any bypass capacitor on the VREF pin, bypass capacitors on VIN and the ramp capacitor, on the RAMP pin, should be connected directly to (See Datasheet)", 9 GND (power) "All voltages are measured with respect to GND. The timing capacitor, on the FREQSET pin, any bypass capacitor on the VREF pin, bypass capacitors on VIN and the ramp capacitor, on the RAMP pin, should be connected directly to (See Datasheet)", 10 DELAYSET C-D (in) "The user programmed current flowing from these pins to GND set the turn-on delay for the corresponding output pair. This delay is introduced between turn-off of one switch and turn-on of another in the same leg of the bridge (See Datasheet)", 11 NC "No Connect", 12 OUTD (out) "The outputs are 2 A totem- pole drivers optimized for both MOSFET gates and level-shifting transformers. The outputs operate as pairs with a nominal 50% duty-cycle. The A-B pair is intended to drive one half-bridge in the (See Datasheet)", 13 OUTC (out) "The outputs are 2 A totem- pole drivers optimized for both MOSFET gates and level-shifting transformers. The outputs operate as pairs with a nominal 50% duty-cycle. The A-B pair is intended to drive one half-bridge in the (See Datasheet)", 14 VC (power) "This pin supplies power to the output drivers and their associated bias circuitry. Connect VC to a stable source above 3 V for normal operation, above 12 V for best performance. This supply should be bypassed directly to the (See Datasheet)", 15 VIN (power) "This pin supplies power to the logic and analog circuitry on the integrated circuit that is not directly associated with driving the output stages. Connect VIN to a stable source above 12 V for normal operation. To ensure (See Datasheet)", 16 PWRGND (power) "VC should be bypassed with a ceramic capacitor from the VC pin to the section of the ground plane that is connected to PWRGND. Any required bulk reservoir capacitor should parallel this one. Power ground and signal ground (See Datasheet)", 17 OUTB (out) "The outputs are 2 A totem- pole drivers optimized for both MOSFET gates and level-shifting transformers. The outputs operate as pairs with a nominal 50% duty-cycle. The A-B pair is intended to drive one half-bridge in the (See Datasheet)", 18 OUTA (out) "The outputs are 2 A totem- pole drivers optimized for both MOSFET gates and level-shifting transformers. The outputs operate as pairs with a nominal 50% duty-cycle. The A-B pair is intended to drive one half-bridge in the (See Datasheet)", 19 NC "No Connect", 20 GND (power) "All voltages are measured with respect to GND. The timing capacitor, on the FREQSET pin, any bypass capacitor on the VREF pin, bypass capacitors on VIN and the ramp capacitor, on the RAMP pin, should be connected directly to (See Datasheet)", 21 GND (power) "All voltages are measured with respect to GND. The timing capacitor, on the FREQSET pin, any bypass capacitor on the VREF pin, bypass capacitors on VIN and the ramp capacitor, on the RAMP pin, should be connected directly to (See Datasheet)", 22 GND (power) "All voltages are measured with respect to GND. The timing capacitor, on the FREQSET pin, any bypass capacitor on the VREF pin, bypass capacitors on VIN and the ramp capacitor, on the RAMP pin, should be connected directly to (See Datasheet)", 23 DELAYSET A-B (in) "The user programmed current flowing from these pins to GND set the turn-on delay for the corresponding output pair. This delay is introduced between turn-off of one switch and turn-on of another in the same leg of the bridge (See Datasheet)", 24 FREQSET "A resistor and a capacitor from FREQSET to GND will set the oscillator frequency.", 25 CLOCKSYNC (io) "(bi-directional clock and synchronization pin): Used as an output, this pin provides a clock signal. As an input, this pin provides a synchronization point. In its simplest usage, multiple devices, each with their own local (See Datasheet)", 26 SLOPE "A resistor from this pin to VCC will set the current used to generate the ramp. Connecting this resistor to the DC input line voltage will provide voltage feed-forward.", 27 RAMP (in) "This pin is the input to the PWM comparator. Connect a capacitor from here to GND.Current mode control may be achieved with a minimum amount of external circuitry, in which  ease this pin provides slope compensation.Beacuse (See Datasheet)", 28 GND (power) "All voltages are measured with respect to GND. The timing capacitor, on the FREQSET pin, any bypass capacitor on the VREF pin, bypass capacitors on VIN and the ramp capacitor, on the RAMP pin, should be connected directly to (See Datasheet)"

## V62/05616-01XE
designator U?
High-Speed PWM Controller with Control, -55 to +125 degC, 16-pin SOIC (DW), Green (RoHS & no Sb/Br); PartNumber: V62/05616-01XE; Manufacturer: Texas Instruments; Frequency(Max)(kHz): 1000; Rating: HiRel Enhanced Product; UVLO Thresholds On/Off(V): 9.6; DatasheetVersion: SGLS305D; PackageVersion: revG, Jan-2011; PackageReference: DW16; PackageDescription: 16-Pin Small Outline Integrated Circuit, 10.3 x 7.5 mm, Pitch 1.27 mm Pitch; Supplier 1: Newark; Supplier Part Number 1: 46M1783; Supplier 2: Mouser; Supplier Part Number 2: 595-V62/05616-01XE; Eco-Plan: Green (RoHS & no Sb/Br); SubFamily: PWM Controller; Mounting Technology: Surface Mount; Code_JEDEC: MS-013-AA; ComponentLink1Description: Datasheet; ComponentLink1URL: http://www.ti.com/general/docs/lit/getliterature.tsp?genericPartNumber=UC2825A-EP&fileType=pdf
footprint DW16_N (SOIC, 16-Leads, Body 10.3x7.5mm, Pitch 1.27mm, IPC Medium Density)
footprint DW16_L (SOIC, 16-Leads, Body 10.3x7.5mm, Pitch 1.27mm, IPC High Density)
footprint DW16_M (SOIC, 16-Leads, Body 10.3x7.5mm, Pitch 1.27mm, IPC Low Density)
pins: 1 INV (in) "Inverting input to the error amplifier", 2 NI (in) "Noninverting input to the error amplifier", 3 EAOUT (out) "Output of the error amplifier for compensation", 4 CLK/LEB (io) "Clock/leading-edge blanking. Output of the internal oscillator", 5 RT "Resistor timing. Timing resistor connection for oscillator frequency programming", 6 CT "Capacitor timing. Timing capacitor connection for oscillator frequency programming. The timing capacitor should be connected to the device ground using minimal trace length", 7 RAMP (in) "Noninverting input to the PWM comparator, with 1.25-V internal input offset. In voltage-mode operation, this serves as the input voltage feed-forward function by using the CT ramp.In peak current mode operation,this serves (See Datasheet)", 8 SS (in) "Soft-start. SS also doubles as the maximum duty cycle clamp", 9 ILIM (in) "Input to the current-limit comparator", 10 GND (power) "Analog ground return", 11 OUTA (out) "High-current totem-pole output A of the on-chip drive stage", 12 PGND (power) "Ground return for the output driver stage", 13 VC (power) "Power-supply for the output stage. This pin should be bypassed with a 0.1-uF monolithic ceramic low-ESL capacitor with minimal trace lengths", 14 OUTB (out) "High-current totem-pole output B of the on-chip drive stage", 15 VCC (power) "Power supply for the device. This pin should be bypassed with a 0.1-uF monolithic ceramic low-ESL capacitor with minimal trace lengths", 16 VREF (out) "5.1-V reference. For stability, the reference should be bypassed with a 0.1-uF monolithic ceramic low-ESL capacitor and minimal trace length to the ground plane"

## V62/05616-02XE
designator U?
High-Speed PWM Controller, -55 to +125 degC, 16-pin SOIC (DW), Green (RoHS & no Sb/Br); PartNumber: V62/05616-02XE; Manufacturer: Texas Instruments; Frequency(Max)(kHz): 1000; Rating: HiRel Enhanced Product; UVLO Thresholds On/Off(V): 9.6; DatasheetVersion: SGLS305D; PackageVersion: revG, Jan-2011; PackageReference: DW16; PackageDescription: 16-Pin Small Outline Integrated Circuit, 10.3 x 7.5 mm, Pitch 1.27 mm Pitch; Supplier 1: Newark; Supplier Part Number 1: 46M1784; Supplier 2: Mouser; Supplier Part Number 2: 595-V62/05616-02XE; Eco-Plan: Green (RoHS & no Sb/Br); SubFamily: PWM Controller; Mounting Technology: Surface Mount; Code_JEDEC: MS-013-AA; ComponentLink1Description: Datasheet; ComponentLink1URL: http://www.ti.com/general/docs/lit/getliterature.tsp?genericPartNumber=UC2825A-EP&fileType=pdf
footprint DW16_N (SOIC, 16-Leads, Body 10.3x7.5mm, Pitch 1.27mm, IPC Medium Density)
footprint DW16_L (SOIC, 16-Leads, Body 10.3x7.5mm, Pitch 1.27mm, IPC High Density)
footprint DW16_M (SOIC, 16-Leads, Body 10.3x7.5mm, Pitch 1.27mm, IPC Low Density)
pins: 1 INV (in) "Inverting input to the error amplifier", 2 NI (in) "Noninverting input to the error amplifier", 3 EAOUT (out) "Output of the error amplifier for compensation", 4 CLK/LEB (io) "Clock/leading-edge blanking. Output of the internal oscillator", 5 RT "Resistor timing. Timing resistor connection for oscillator frequency programming", 6 CT "Capacitor timing. Timing capacitor connection for oscillator frequency programming. The timing capacitor should be connected to the device ground using minimal trace length", 7 RAMP (in) "Noninverting input to the PWM comparator, with 1.25-V internal input offset. In voltage-mode operation, this serves as the input voltage feed-forward function by using the CT ramp.In peak current mode operation,this serves (See Datasheet)", 8 SS (in) "Soft-start. SS also doubles as the maximum duty cycle clamp", 9 ILIM (in) "Input to the current-limit comparator", 10 GND (power) "Analog ground return", 11 OUTA (out) "High-current totem-pole output A of the on-chip drive stage", 12 PGND (power) "Ground return for the output driver stage", 13 VC (power) "Power-supply for the output stage. This pin should be bypassed with a 0.1-uF monolithic ceramic low-ESL capacitor with minimal trace lengths", 14 OUTB (out) "High-current totem-pole output B of the on-chip drive stage", 15 VCC (power) "Power supply for the device. This pin should be bypassed with a 0.1-uF monolithic ceramic low-ESL capacitor with minimal trace lengths", 16 VREF (out) "5.1-V reference. For stability, the reference should be bypassed with a 0.1-uF monolithic ceramic low-ESL capacitor and minimal trace length to the ground plane"